# EAGLE library part 623310235321 (library Wuerth_Elektronik_eiCan_Pin_&_Socked_Headers_v1.3)
WR-PHD 1.27mm Dual SMT Socket Header H=2.20mm, Bottom Entry, 10 Pins
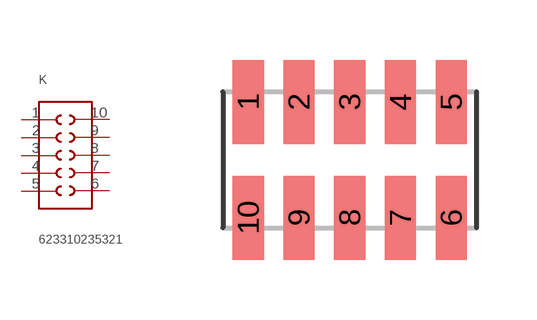
[diagram p350: symbol with the pads of 623310235321; footprint 623310235321]

Designator prefix K

## 623310235321  [623310235321]
1  1  pas
2  2  pas
3  3  pas
4  4  pas
5  5  pas
6  6  pas
7  7  pas
8  8  pas
9  9  pas
10  10  pas

## Footprint 623310235321 (pad centres in mm)
WR-PHD 1.27mm Dual SMT Socket Header H=2.20mm, Bottom Entry, 10 Pins
smd 0.78 x 2.1: 1 -2.54,1.45; 2 -1.27,1.45; 3 0,1.45; 4 1.27,1.45; 5 2.54,1.45; 6 2.54,-1.45; 7 1.27,-1.45; 8 0,-1.45; 9 -1.27,-1.45; 10 -2.54,-1.45